# EAGLE library part B14B-PHDSS (library con-jst-phd)
JST PHD series header 2.00mm pitch disconnectable crimp style connectors, vertical (side entry type), 14 pins
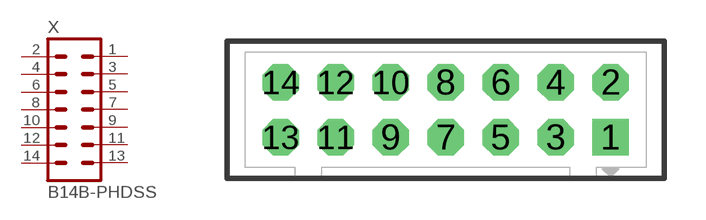
[diagram p3: symbol with the pads of B14B-PHDSS; footprint B14B-PHDSS]

Designator prefix X

## B14B-PHDSS  [B14B-PHDSS]
1  1  pas
2  2  pas
3  3  pas
4  4  pas
5  5  pas
6  6  pas
7  7  pas
8  8  pas
9  9  pas
10  10  pas
11  11  pas
12  12  pas
13  13  pas
14  14  pas

## B14B-PHDSS-B  [B14B-PHDSS]
Pads as for B14B-PHDSS

## Footprint B14B-PHDSS (pad centres in mm)
JST PHD series header 2.00mm pitch disconnectable crimp style connectors, through-hole vertical (top entry type), 14 pins
drill 0.7 pad 1.321 square: 1 6,-1
drill 0.7 pad 1.321 octagon: 2 6,1; 3 4,-1; 4 4,1; 5 2,-1; 6 2,1; 7 0,-1; 8 0,1; 9 -2,-1; 10 -2,1; 11 -4,-1; 12 -4,1; 13 -6,-1; 14 -6,1